# Altium footprint library LED_Component.PcbLib: 3 footprints
Each footprint in its own frame and in the unit in brackets; x right, y up, seen from the top. Pads: shape width x height; smd on the part's side, far side on the other; paste and mask are expansions set on the pad; w line width, h text height; cw(c..) or ccw(c..) is an arc to the next point about the centre after c.
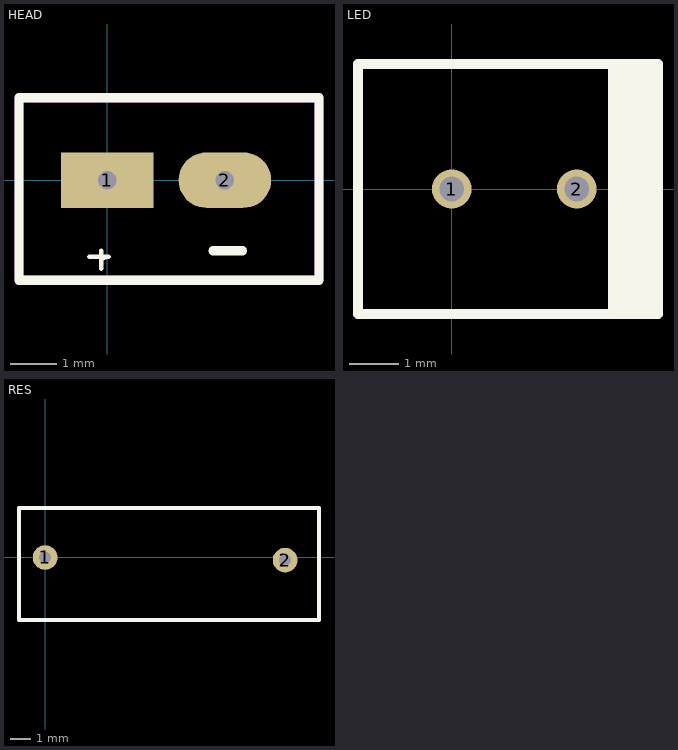
[diagram p0: the footprints below, top view; thin cyan lines are the x and y axes]

## HEAD [mm]
pads (2):
  rect 2x1.2 hole 0.4: 1(0,0)
  oval 2x1.2 hole 0.4: 2(2.54,0)
Top Overlay:
  lines w0.102: -0.381,-1.651 0.026,-1.651 ccw(c0.026,-1.868) -0.127,-1.714 -0.127,-1.905 -0.127,-1.524
  lines w0.2: 2.286,-1.524 2.921,-1.524 ; -1.905,-2.159 -1.905,1.778 3.683,1.778 4.572,1.778 4.572,-2.159 2.953,-2.159 -0.286,-2.159 -1.905,-2.159
Top Assembly:
  lines w0.2: -1.905,-2.159 4.572,-2.159 4.572,1.778 3.683,1.778 -1.905,1.778 -1.905,-2.159
  text ".Designator" at -2.54,2.413 h1.52
3D body "PBC02SAAN--3DModel-STEP-269445.STEP": height 8.38, standoff -3.05, extent -1.397,-1.27 3.683,1.27

## LED [mm]
pads (2):
  round 0.8 hole 0.5: 1(0,0) 2(2.54,0)
Top Overlay:
  rectangle: 3.175,-2.54 4.191,2.54
  lines w0.2: -1.905,-2.54 -1.905,2.54 3.175,2.54 4.191,2.54 4.191,-2.54 -1.905,-2.54
Top Assembly:
  rectangle: 3.175,-2.54 4.191,2.54
  lines w0.2: -1.905,-2.54 -1.905,2.54 3.175,2.54 4.191,2.54 4.191,-2.54 -1.905,-2.54
  text ".Designator" at -6.604,3.175 h1.52
3D body "Download_STP_WL-TMRC-3mm_rev1.stp": height 6.57, standoff -25.13, extent -0.635,-1.905 2.935,1.929

## RES [mm]
pads (2):
  round 1.2 hole 0.6: 1(0,0) 2(11.684,-0.127)
Top Overlay:
  lines w0.2: -1.27,-3.048 -1.27,2.413 11.938,2.413 13.335,2.413 13.335,-3.048 -1.27,-3.048
Top Assembly:
  lines w0.2: -1.27,-3.048 -1.27,2.413 11.938,2.413 13.335,2.413 13.335,-3.048 -1.27,-3.048
  text ".Designator" at -1.397,3.429 h1.52
3D body "YAG_MF25_YAG.step": height 2.62, standoff -2.79, extent -0.305,-1.27 11.989,1.327